# Altium footprint library AiGateway.PcbLib: 18 footprints (part 2 of 2)
Each footprint in its own frame and in the unit in brackets; x right, y up, seen from the top. Pads: shape width x height; smd on the part's side, far side on the other; paste and mask are expansions set on the pad; w line width, h text height; cw(c..) or ccw(c..) is an arc to the next point about the centre after c.
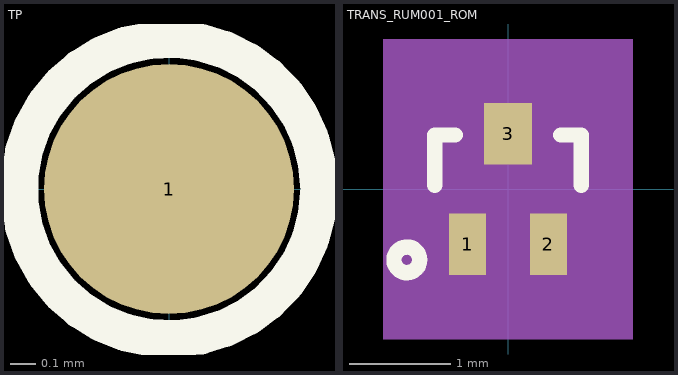
[diagram p1: the footprints below, top view; thin cyan lines are the x and y axes]

## TP [mm]
pads (1):
  round 1 smd paste-100: 1(0,0)
Top Overlay:
  circle w0.15: c0,0 r0.6

## TRANS_RUM001_ROM [mm]
pads (3):
  rect 0.37x0.606 smd paste+0 mask+0: 1(-0.4,-0.544) 2(0.4,-0.544)
  rect 0.47x0.606 smd paste+0 mask+0: 3(0,0.544)
Top Overlay:
  circle w0.152: c-1,-0.7 r0.127
  lines w0.152: -0.724,0.036 -0.724,0.533 -0.523,0.533 ; 0.523,0.533 0.724,0.533 0.724,0.036
Mechanical 5:
  region: -1.232,1.483 1.232,1.483 1.232,-1.483 -1.232,-1.483
Mechanical 13:
  circle w0: c-0.343,-0.152 r0.127
  lines w0.025: -0.597,-0.406 0.597,-0.406 0.597,0.406 -0.597,0.406 -0.597,-0.406 ; -0.54,-0.648 -0.54,-0.406 -0.26,-0.406 -0.26,-0.648 -0.54,-0.648 ; -0.191,0.406 0.191,0.406 0.191,0.648 -0.191,0.648 -0.191,0.406 ; 0.26,-0.648 0.26,-0.406 0.54,-0.406 0.54,-0.648 0.26,-0.648
Mechanical 15:
  region: -0.851,-0.66 -0.851,0.66 -0.445,0.66 -0.445,1.102 0.445,1.102 0.445,0.66 0.851,0.66 0.851,-0.66 0.794,-0.66 0.794,-1.102 -0.794,-1.102 -0.794,-0.66
  region: 0.597,-0.406 -0.597,-0.406 -0.597,0.406 0.597,0.406
  lines w0.152: -0.851,-0.66 -0.851,0.66 -0.445,0.66 -0.445,1.102 0.445,1.102 0.445,0.66 0.851,0.66 0.851,-0.66 0.794,-0.66 0.794,-1.102 -0.794,-1.102 -0.794,-0.66 -0.851,-0.66
3D body "TRANS_RUM001_ROM.step": height 0.61, standoff 0, extent -0.597,-0.648 0.597,0.648
3D body: height 0.25, standoff 0, extent 0,0 0.254,0.254